# Altium footprint library Packaging.PcbLib: 2 footprints
Each footprint in its own frame and in the unit in brackets; x right, y up, seen from the top. Pads: shape width x height; smd on the part's side, far side on the other; paste and mask are expansions set on the pad; w line width, h text height; cw(c..) or ccw(c..) is an arc to the next point about the centre after c.
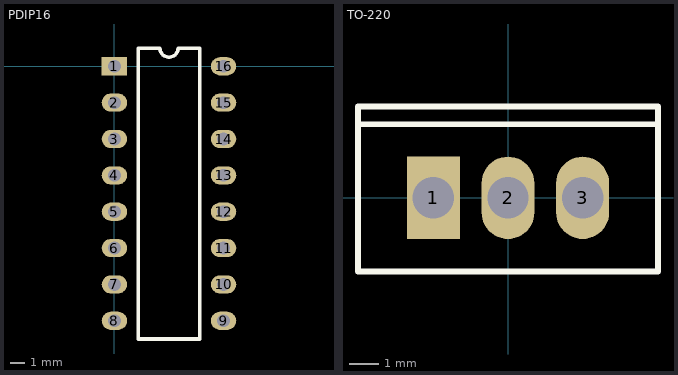
[diagram p0: the footprints below, top view; thin cyan lines are the x and y axes]

## PDIP16 [mil]
pads (16):
  rect 70x50 hole 35: 1(0,0)
  oval 70x50 hole 35: 2(0,-100) 3(0,-200) 4(0,-300) 5(0,-400) 6(0,-500) 7(0,-600) 8(0,-700) 9(300,-700) 10(300,-600) 11(300,-500) 12(300,-400) 13(300,-300) 14(300,-200) 15(300,-100) 16(300,0)
Top Overlay:
  lines w10: 65,-750 65,50 125,50 ccw(c150,50) 175,50 235,50 235,-750 65,-750
3D body: height 100, standoff 15, extent 25,-750 275,50.04
3D body: height 50, standoff 40, extent 5,-25 25,25
3D body: height 50, standoff 0, extent -5,-25 5,25
3D body: height 0, standoff -125, extent -5,-7.5 5,7.5
3D body: height 50, standoff 40, extent 5,-125 25,-75
3D body: height 50, standoff 0, extent -5,-125 5,-75
3D body: height 0, standoff -125, extent -5,-107.5 5,-92.5
3D body: height 50, standoff 40, extent 5,-225 25,-175
3D body: height 50, standoff 0, extent -5,-225 5,-175
3D body: height 0, standoff -125, extent -5,-207.5 5,-192.5
3D body: height 50, standoff 40, extent 5,-325 25,-275
3D body: height 50, standoff 0, extent -5,-325 5,-275
3D body: height 0, standoff -125, extent -5,-307.5 5,-292.5
3D body: height 50, standoff 40, extent 5,-425 25,-375
3D body: height 50, standoff 0, extent -5,-425 5,-375
3D body: height 0, standoff -125, extent -5,-407.5 5,-392.5
3D body: height 50, standoff 40, extent 5,-525 25,-475
3D body: height 50, standoff 0, extent -5,-525 5,-475
3D body: height 0, standoff -125, extent -5,-507.5 5,-492.5
3D body: height 50, standoff 40, extent 5,-625 25,-575
3D body: height 50, standoff 0, extent -5,-625 5,-575
3D body: height 0, standoff -125, extent -5,-607.5 5,-592.5
3D body: height 50, standoff 40, extent 5,-725 25,-675
3D body: height 50, standoff 0, extent -5,-725 5,-675
3D body: height 0, standoff -125, extent -5,-707.5 5,-692.5
3D body: height 50, standoff 40, extent 275,-725 295,-675
3D body: height 50, standoff 0, extent 295,-725 305,-675
3D body: height 0, standoff -125, extent 295,-707.5 305,-692.5
3D body: height 50, standoff 40, extent 275,-625 295,-575
3D body: height 50, standoff 0, extent 295,-625 305,-575
3D body: height 0, standoff -125, extent 295,-607.5 305,-592.5
3D body: height 50, standoff 40, extent 275,-525 295,-475
3D body: height 50, standoff 0, extent 295,-525 305,-475
3D body: height 0, standoff -125, extent 295,-507.5 305,-492.5
3D body: height 50, standoff 40, extent 275,-425 295,-375
3D body: height 50, standoff 0, extent 295,-425 305,-375
3D body: height 0, standoff -125, extent 295,-407.5 305,-392.5
3D body: height 50, standoff 40, extent 275,-325 295,-275
3D body: height 50, standoff 0, extent 295,-325 305,-275
3D body: height 0, standoff -125, extent 295,-307.5 305,-292.5
3D body: height 50, standoff 40, extent 275,-225 295,-175
3D body: height 50, standoff 0, extent 295,-225 305,-175
3D body: height 0, standoff -125, extent 295,-207.5 305,-192.5
3D body: height 50, standoff 40, extent 275,-125 295,-75
3D body: height 50, standoff 0, extent 295,-125 305,-75
3D body: height 0, standoff -125, extent 295,-107.5 305,-92.5
3D body: height 50, standoff 40, extent 275,-25 295,25
3D body: height 50, standoff 0, extent 295,-25 305,25
3D body: height 0, standoff -125, extent 295,-7.5 305,7.5

## TO-220 [mm]
pads (3):
  rect 1.8x2.8 hole 1.4: 1(-2.54,0)
  oval 1.8x2.8 hole 1.4: 2(0,0) 3(2.54,0)
Top Overlay:
  lines w0.2: -5.1,2.5 5.1,2.5 ; -5.1,-2.5 5.1,-2.5 5.1,3.1 -5.1,3.1 -5.1,-2.5
3D body: height 11.35, standoff 10.35, extent -5.1,-1.4 5.1,2.5
3D body: height 10.35, standoff 2.25, extent -5.1,-1.4 5.1,2.5
3D body: height 17.75, standoff 2.25, extent -5.1,2.5 5.1,3.1
3D body: height 2.25, standoff -2, extent -0.375,-0.3 0.375,0.3
3D body: height 2.25, standoff -2, extent -2.915,-0.3 -2.165,0.3
3D body: height 2.25, standoff -2, extent 2.165,-0.3 2.915,0.3